# Altium schematic symbol library ESD5302F_SOT-23-3_Diode.SchLib: 1 symbol
Pins are listed as number, name and electrical type; pins without a type are passive.

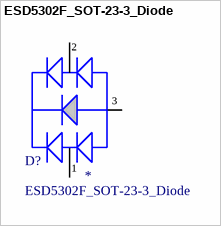
[diagram p0: symbol ESD5302F_SOT-23-3_Diode]

## ESD5302F_SOT-23-3_Diode
designator D?
SOT-23-3  ESD Protection Devices ROHS; LCSC: *
footprint ESD5302F_SOT-23-3_Diode
pins: 1, 2, 3